# Altium schematic symbol library TXS0206-29.SchLib: 1 symbol
Pins are listed as number, name and electrical type; pins without a type are passive.

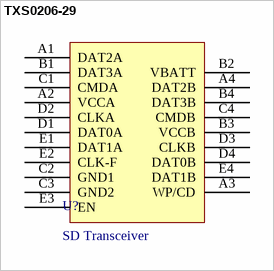
[diagram p0: symbol TXS0206-29]

## TXS0206-29
designator U?, comment SD Transceiver
footprint TXS0206-29 (BGA20C40P4X5_156X196X50, BGA, 20-Leads, Body 1.56x1.96mmx0.50mm, Pitch 0.40mm)
pins: A1 DAT2A, A2 VCCA, A3 WP/CD, A4 DAT2B, B1 DAT3A, B2 VBATT, B3 VCCB, B4 DAT3B, C1 CMDA, C2 GND1, C3 GND2, C4 CMDB, D1 DAT0A, D2 CLKA, D3 CLKB, D4 DAT0B, E1 DAT1A, E2 CLK-F, E3 EN, E4 DAT1B